# EAGLE library part ATXMEGA_A1 (library uC_STE)
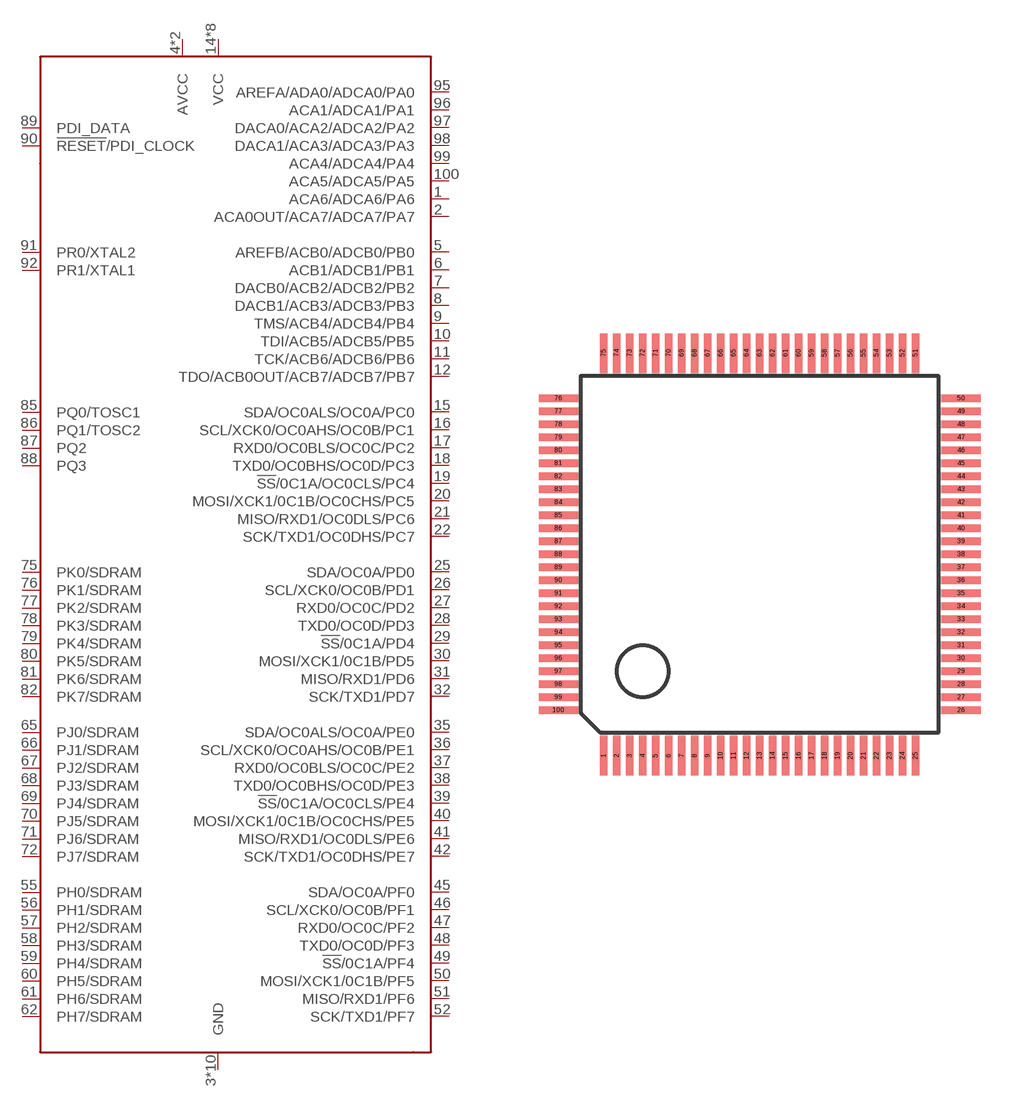
[diagram p1: symbol with the pads of TQFP100; footprint TQFP100]

Designator prefix -

## ATXMEGA_A1  [TQFP100]
1  ACA6/ADCA6/PA6
2  ACA0OUT/ACA7/ADCA7/PA7
3  GND  pwr
4  AVCC  pwr
5  AREFB/ACB0/ADCB0/PB0
6  ACB1/ADCB1/PB1
7  DACB0/ACB2/ADCB2/PB2
8  DACB1/ACB3/ADCB3/PB3
9  TMS/ACB4/ADCB4/PB4
10  TDI/ACB5/ADCB5/PB5
11  TCK/ACB6/ADCB6/PB6
12  TDO/ACB0OUT/ACB7/ADCB7/PB7
13  GND  pwr
14  VCC  pwr
15  SDA/OC0ALS/OC0A/PC0
16  SCL/XCK0/OC0AHS/OC0B/PC1
17  RXD0/OC0BLS/OC0C/PC2
18  TXD0/OC0BHS/OC0D/PC3
19  !SS!/0C1A/OC0CLS/PC4
20  MOSI/XCK1/0C1B/OC0CHS/PC5
21  MISO/RXD1/OC0DLS/PC6
22  SCK/TXD1/OC0DHS/PC7
23  GND  pwr
24  VCC  pwr
25  SDA/OC0A/PD0
26  SCL/XCK0/OC0B/PD1
27  RXD0/OC0C/PD2
28  TXD0/OC0D/PD3
29  !SS!/0C1A/PD4
30  MOSI/XCK1/0C1B/PD5
31  MISO/RXD1/PD6
32  SCK/TXD1/PD7
33  GND  pwr
34  VCC  pwr
35  SDA/OC0ALS/OC0A/PE0
36  SCL/XCK0/OC0AHS/OC0B/PE1
37  RXD0/OC0BLS/OC0C/PE2
38  TXD0/OC0BHS/OC0D/PE3
39  !SS!/0C1A/OC0CLS/PE4
40  MOSI/XCK1/0C1B/OC0CHS/PE5
41  MISO/RXD1/OC0DLS/PE6
42  SCK/TXD1/OC0DHS/PE7
43  GND  pwr
44  VCC  pwr
45  SDA/OC0A/PF0
46  SCL/XCK0/OC0B/PF1
47  RXD0/OC0C/PF2
48  TXD0/OC0D/PF3
49  !SS!/0C1A/PF4
50  MOSI/XCK1/0C1B/PF5
51  MISO/RXD1/PF6
52  SCK/TXD1/PF7
53  GND  pwr
54  VCC  pwr
55  PH0/SDRAM
56  PH1/SDRAM
57  PH2/SDRAM
58  PH3/SDRAM
59  PH4/SDRAM
60  PH5/SDRAM
61  PH6/SDRAM
62  PH7/SDRAM
63  GND  pwr
64  VCC  pwr
65  PJ0/SDRAM
66  PJ1/SDRAM
67  PJ2/SDRAM
68  PJ3/SDRAM
69  PJ4/SDRAM
70  PJ5/SDRAM
71  PJ6/SDRAM
72  PJ7/SDRAM
73  GND  pwr
74  VCC  pwr
75  PK0/SDRAM
76  PK1/SDRAM
77  PK2/SDRAM
78  PK3/SDRAM
79  PK4/SDRAM
80  PK5/SDRAM
81  PK6/SDRAM
82  PK7/SDRAM
83  VCC  pwr
84  GND  pwr
85  PQ0/TOSC1
86  PQ1/TOSC2
87  PQ2
88  PQ3
89  PDI_DATA
90  !RESET!/PDI_CLOCK
91  PR0/XTAL2
92  PR1/XTAL1
93  GND  pwr
94  AVCC  pwr
95  AREFA/ADA0/ADCA0/PA0
96  ACA1/ADCA1/PA1
97  DACA0/ACA2/ADCA2/PA2
98  DACA1/ACA3/ADCA3/PA3
99  ACA4/ADCA4/PA4
100  ACA5/ADCA5/PA5

## Footprint TQFP100 (pad centres in mm)
Thin Quad Flat Pack
smd 0.27 x 1.5: 1 -6,-7.75; 2 -5.5,-7.75; 3 -5,-7.75; 4 -4.5,-7.75; 5 -4,-7.75; 6 -3.5,-7.75; 7 -3,-7.75; 8 -2.5,-7.75; 9 -2,-7.75; 10 -1.5,-7.75; 11 -1,-7.75; 12 -0.5,-7.75; 13 0,-7.75; 14 0.5,-7.75; 15 1,-7.75; 16 1.5,-7.75; 17 2,-7.75; 18 2.5,-7.75; 19 3,-7.75; 20 3.5,-7.75; 21 4,-7.75; 22 4.5,-7.75; 23 5,-7.75; 24 5.5,-7.75; 25 6,-7.75; 51 6,7.75; 52 5.5,7.75; 53 5,7.75; 54 4.5,7.75; 55 4,7.75; 56 3.5,7.75; 57 3,7.75; 58 2.5,7.75; 59 2,7.75; 60 1.5,7.75; 61 1,7.75; 62 0.5,7.75; 63 0,7.75; 64 -0.5,7.75; 65 -1,7.75; 66 -1.5,7.75; 67 -2,7.75; 68 -2.5,7.75; 69 -3,7.75; 70 -3.5,7.75; 71 -4,7.75; 72 -4.5,7.75; 73 -5,7.75; 74 -5.5,7.75; 75 -6,7.75
smd 1.5 x 0.27: 26 7.75,-6; 27 7.75,-5.5; 28 7.75,-5; 29 7.75,-4.5; 30 7.75,-4; 31 7.75,-3.5; 32 7.75,-3; 33 7.75,-2.5; 34 7.75,-2; 35 7.75,-1.5; 36 7.75,-1; 37 7.75,-0.5; 38 7.75,0; 39 7.75,0.5; 40 7.75,1; 41 7.75,1.5; 42 7.75,2; 43 7.75,2.5; 44 7.75,3; 45 7.75,3.5; 46 7.75,4; 47 7.75,4.5; 48 7.75,5; 49 7.75,5.5; 50 7.75,6; 76 -7.75,6; 77 -7.75,5.5; 78 -7.75,5; 79 -7.75,4.5; 80 -7.75,4; 81 -7.75,3.5; 82 -7.75,3; 83 -7.75,2.5; 84 -7.75,2; 85 -7.75,1.5; 86 -7.75,1; 87 -7.75,0.5; 88 -7.75,0; 89 -7.75,-0.5; 90 -7.75,-1; 91 -7.75,-1.5; 92 -7.75,-2; 93 -7.75,-2.5; 94 -7.75,-3; 95 -7.75,-3.5; 96 -7.75,-4; 97 -7.75,-4.5; 98 -7.75,-5; 99 -7.75,-5.5; 100 -7.75,-6